# EAGLE library part PREC070F07X1R90 (library con-pinheader-precision)
female precision header
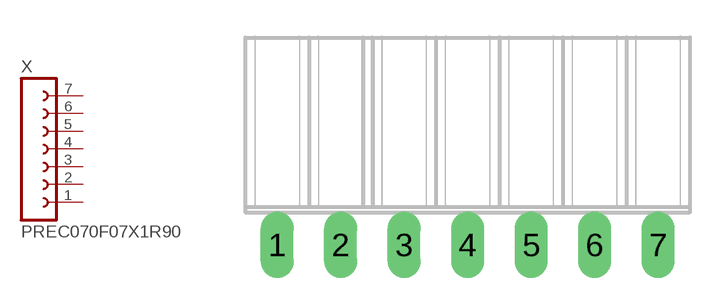
[diagram p1: symbol with the pads of PREC070F07X1R90; footprint PREC070F07X1R90]

Designator prefix X

## PREC070F07X1R90  [PREC070F07X1R90]
1  1  pas
2  2  pas
3  3  pas
4  4  pas
5  5  pas
6  6  pas
7  7  pas

## Footprint PREC070F07X1R90 (pad centres in mm)
female precision header
drill 0.813 long: 1 -7.62,0; 2 -5.08,0; 3 -2.54,0; 4 0,0; 5 2.54,0; 6 5.08,0; 7 7.62,0